# Altium integrated library NSC Amplifier.IntLib: 1615 symbols (part 42 of 44)
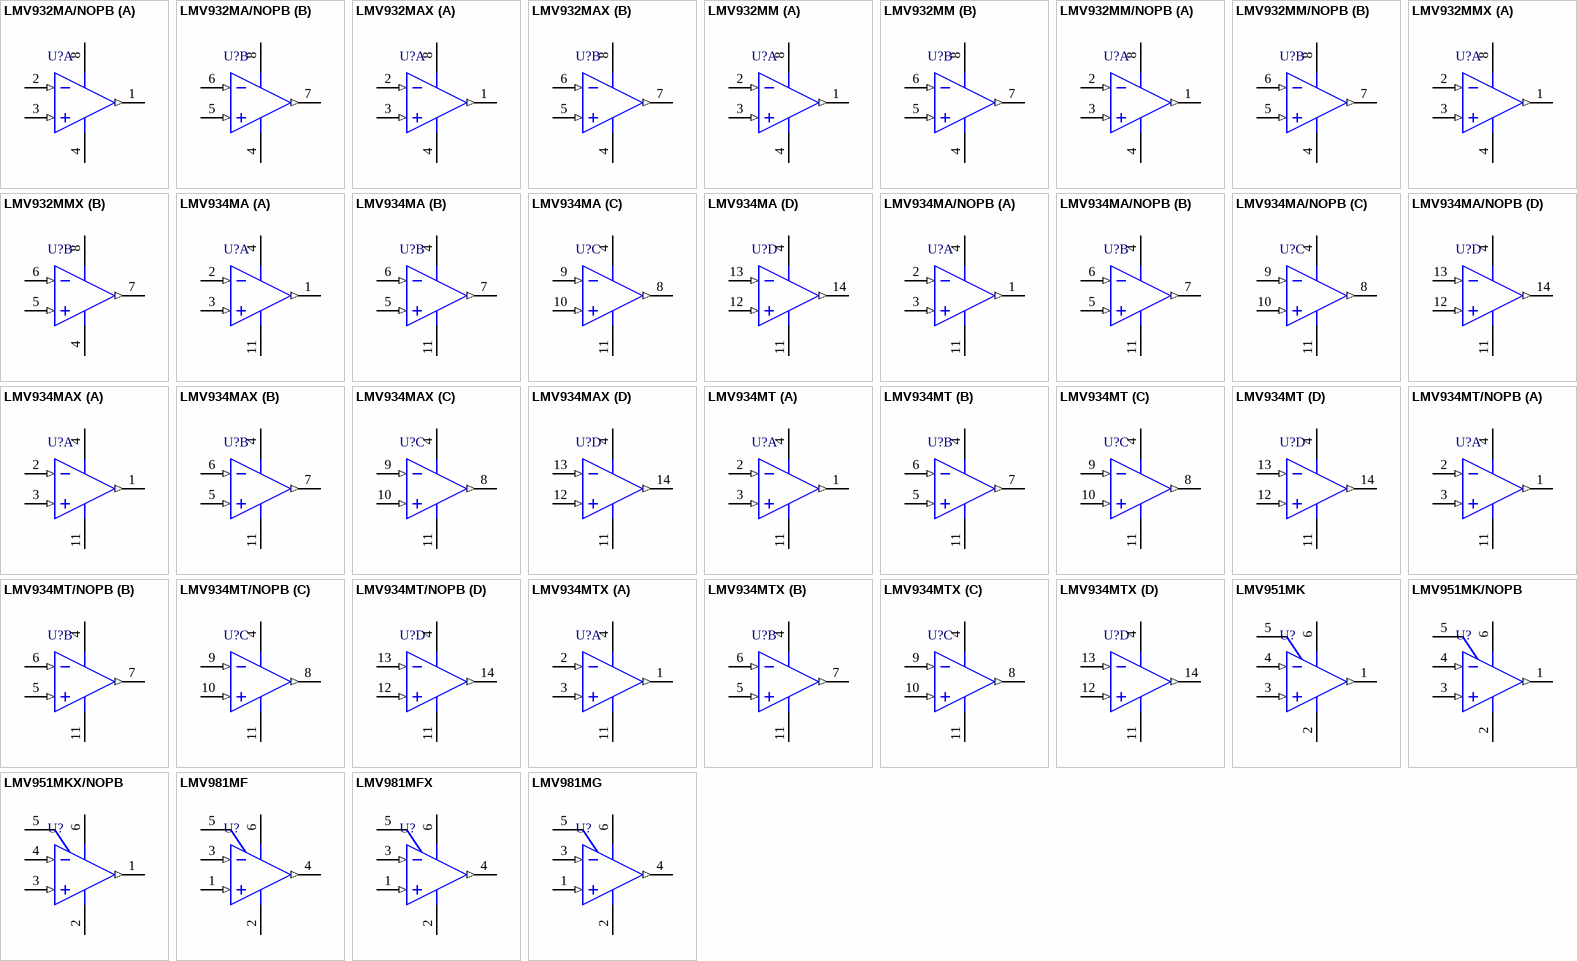
[diagram p123: symbols LMV932MA/NOPB to LMV981MG]

## LMV934MT
designator U?
Quad 1.8V, RRIO Operational Amplifiers, 14-pin TSSOP; PartNumber: LMV934MT; Manufacturer: National Semiconductor; PackageTopMarking: NSZXYTT*LMV93*4MT; PowerWise: N; Published: 4-Dec-2008; LatestRevisionDate: 13-Jan-2009; LatestRevisionNote: Sim Model Added.; DatasheetVersion: May-2008; PackageVersion: revD, Jun-2003; PackageReference: MTC14; Publisher: Altium Limited; PackageDescription: Molded TSSOP, JEDEC, 5 x 4.4 x 0.9mm Body, 14 Lead, 0.65mm Pitch; RoHS: N; PinCount: 14; CompType: Amplifiers; Code_JEDEC: MO-153-AB-1; ComponentLink1Description: LMV934 Datasheet; ComponentLink1URL: http://www.national.com/ds/LM/LMV934.pdf; ComponentLink2Description: LMV934 Web Page; ComponentLink2URL: http://www.national.com/pf/LM/LMV934.html; ComponentLink3Description: MTC14 Package Page; ComponentLink3URL: http://www.national.com/packaging/folders/mtc14.html
footprint MTC14_N (TSOP, 14-Leads, Body 5x4.4mm, Pitch 0.65mm, IPC Medium Density)
footprint MTC14_L (TSOP, 14-Leads, Body 5x4.4mm, Pitch 0.65mm, IPC High Density)
footprint MTC14_M (TSOP, 14-Leads, Body 5x4.4mm, Pitch 0.65mm, IPC Low Density)
simulation model LMV921 (SUBCKT)
pins on every part: 4 V+ (power), 11 V- (power)
part A pins: 1 OUTA (out), 2 INA- (in), 3 INA+ (in)
part B pins: 5 INB+ (in), 6 INB- (in), 7 OUTB (out)
part C pins: 8 OUTC (out), 9 INC- (in), 10 INC+ (in)
part D pins: 12 IND+ (in), 13 IND- (in), 14 OUTD (out)

## LMV934MT/NOPB
designator U?
Quad 1.8V, RRIO Operational Amplifiers, 14-pin TSSOP, Pb-Free; PartNumber: LMV934MT/NOPB; Manufacturer: National Semiconductor; PackageTopMarking: NSZXYTT*LMV93*4MT; PowerWise: N; Published: 1-Mar-2010; DatasheetVersion: May-2008; PackageVersion: revD, Jun-2003; PackageReference: MTC14; Publisher: Altium Limited; PackageDescription: Molded TSSOP, JEDEC, 5 x 4.4 x 0.9mm Body, 14 Lead, 0.65mm Pitch; Supplier 1: Digi-Key; Supplier Part Number 1: LMV934MT-ND; RoHS: Y; PinCount: 14; CompType: Amplifiers; Code_JEDEC: MO-153-AB-1; ComponentLink1Description: LMV934 Datasheet; ComponentLink1URL: http://www.national.com/ds/LM/LMV934.pdf; ComponentLink2Description: LMV934 Web Page; ComponentLink2URL: http://www.national.com/pf/LM/LMV934.html; ComponentLink3Description: MTC14 Package Page; ComponentLink3URL: http://www.national.com/packaging/folders/mtc14.html
footprint MTC14_N (TSOP, 14-Leads, Body 5x4.4mm, Pitch 0.65mm, IPC Medium Density)
footprint MTC14_L (TSOP, 14-Leads, Body 5x4.4mm, Pitch 0.65mm, IPC High Density)
footprint MTC14_M (TSOP, 14-Leads, Body 5x4.4mm, Pitch 0.65mm, IPC Low Density)
simulation model LMV921 (SUBCKT)
pins on every part: 4 V+ (power), 11 V- (power)
part A pins: 1 OUTA (out), 2 INA- (in), 3 INA+ (in)
part B pins: 5 INB+ (in), 6 INB- (in), 7 OUTB (out)
part C pins: 8 OUTC (out), 9 INC- (in), 10 INC+ (in)
part D pins: 12 IND+ (in), 13 IND- (in), 14 OUTD (out)

## LMV934MTX
designator U?
Quad 1.8V, RRIO Operational Amplifiers, 14-pin TSSOP; PartNumber: LMV934MTX; Manufacturer: National Semiconductor; PackageTopMarking: NSZXYTT*LMV93*4MT; PowerWise: N; Published: 1-Mar-2010; DatasheetVersion: May-2008; PackageVersion: revD, Jun-2003; PackageReference: MTC14; Publisher: Altium Limited; PackageDescription: Molded TSSOP, JEDEC, 5 x 4.4 x 0.9mm Body, 14 Lead, 0.65mm Pitch; RoHS: N; PinCount: 14; CompType: Amplifiers; Code_JEDEC: MO-153-AB-1; ComponentLink1Description: LMV934 Datasheet; ComponentLink1URL: http://www.national.com/ds/LM/LMV934.pdf; ComponentLink2Description: LMV934 Web Page; ComponentLink2URL: http://www.national.com/pf/LM/LMV934.html; ComponentLink3Description: MTC14 Package Page; ComponentLink3URL: http://www.national.com/packaging/folders/mtc14.html
footprint MTC14_N (TSOP, 14-Leads, Body 5x4.4mm, Pitch 0.65mm, IPC Medium Density)
footprint MTC14_L (TSOP, 14-Leads, Body 5x4.4mm, Pitch 0.65mm, IPC High Density)
footprint MTC14_M (TSOP, 14-Leads, Body 5x4.4mm, Pitch 0.65mm, IPC Low Density)
simulation model LMV921 (SUBCKT)
pins on every part: 4 V+ (power), 11 V- (power)
part A pins: 1 OUTA (out), 2 INA- (in), 3 INA+ (in)
part B pins: 5 INB+ (in), 6 INB- (in), 7 OUTB (out)
part C pins: 8 OUTC (out), 9 INC- (in), 10 INC+ (in)
part D pins: 12 IND+ (in), 13 IND- (in), 14 OUTD (out)

## LMV951MK
designator U?
1V, 2.7 MHz, Rail-to-Rail Input and Output Amplifier with Shutdown Option, 6-pin Tiny SOT23; PartNumber: LMV951MK; Manufacturer: National Semiconductor; PackageTopMarking: AS3A*XTT; PowerWise: N; CompType: Amplifiers; Published: 4-Dec-2008; LatestRevisionDate: 13-Jan-2009; LatestRevisionNote: Sim Model Added.; DatasheetVersion: Dec-2006; PackageVersion: revE, Nov-2008; PackageReference: MK06A; Publisher: Altium Limited; PackageDescription: Molded TSOT, 2.97 x 1.65 x 0.87mm Body, 6 Lead, 0.95mm Pitch; Supplier 1: Farnell; Supplier Part Number 1: 1313864; RoHS: Y; PinCount: 6; Code_JEDEC: MO-193-AA; Code_IPC: SOT26A-6; ComponentLink1Description: LMV951 Datasheet; ComponentLink1URL: http://www.national.com/ds/LM/LMV951.pdf; ComponentLink2Description: LMV951 Web Page; ComponentLink2URL: http://www.national.com/pf/LM/LMV951.html; ComponentLink3Description: MK06A Package Page; ComponentLink3URL: http://www.national.com/packaging/folders/mk06a.html
footprint MK06A_N (SOT23, 6-Leads, Body 3.0x1.7mm, Pitch 0.95mm, Lead Span 2.9mm, IPC Medium Density)
footprint MK06A_L (SOT23, 6-Leads, Body 3.0x1.7mm, Pitch 0.95mm, Lead Span 2.9mm, IPC High Density)
footprint MK06A_M (SOT23, 6-Leads, Body 3.0x1.7mm, Pitch 0.95mm, Lead Span 2.9mm, IPC Low Density)
simulation model LMV951 (SUBCKT)
pins: 1 OUT (out), 2 V- (power), 3 IN+ (in), 4 IN- (in), 5 SHDN, 6 V+ (power)

## LMV951MK/NOPB
designator U?
1V, 2.7 MHz, Rail-to-Rail Input and Output Amplifier with Shutdown Option, 6-pin Tiny SOT23, Pb-Free; PartNumber: LMV951MK/NOPB; Manufacturer: National Semiconductor; PackageTopMarking: AS3A*XTT; PowerWise: N; CompType: Amplifiers; Published: 1-Mar-2010; DatasheetVersion: Dec-2006; PackageVersion: revE, Nov-2008; PackageReference: MK06A; Publisher: Altium Limited; PackageDescription: Molded TSOT, 2.97 x 1.65 x 0.87mm Body, 6 Lead, 0.95mm Pitch; Supplier 1: Digi-Key; Supplier Part Number 1: LMV951MKTR-ND; Supplier 2: Digi-Key; Supplier Part Number 2: LMV951MKCT-ND; Supplier 3: Digi-Key; Supplier Part Number 3: LMV951MKDKR-ND; Supplier 4: Farnell; Supplier Part Number 4: 1693915; RoHS: Y; PinCount: 6; Code_JEDEC: MO-193-AA; Code_IPC: SOT26A-6; ComponentLink1Description: LMV951 Datasheet; ComponentLink1URL: http://www.national.com/ds/LM/LMV951.pdf; ComponentLink2Description: LMV951 Web Page; ComponentLink2URL: http://www.national.com/pf/LM/LMV951.html; ComponentLink3Description: MK06A Package Page; ComponentLink3URL: http://www.national.com/packaging/folders/mk06a.html
footprint MK06A_N (SOT23, 6-Leads, Body 3.0x1.7mm, Pitch 0.95mm, Lead Span 2.9mm, IPC Medium Density)
footprint MK06A_L (SOT23, 6-Leads, Body 3.0x1.7mm, Pitch 0.95mm, Lead Span 2.9mm, IPC High Density)
footprint MK06A_M (SOT23, 6-Leads, Body 3.0x1.7mm, Pitch 0.95mm, Lead Span 2.9mm, IPC Low Density)
simulation model LMV951 (SUBCKT)
pins: 1 OUT (out), 2 V- (power), 3 IN+ (in), 4 IN- (in), 5 SHDN, 6 V+ (power)

## LMV951MKX/NOPB
designator U?
1V, 2.7 MHz, Rail-to-Rail Input and Output Amplifier with Shutdown Option, 6-pin Tiny SOT23, Pb-Free; PartNumber: LMV951MKX/NOPB; Manufacturer: National Semiconductor; PackageTopMarking: AS3A*XTT; PowerWise: N; CompType: Amplifiers; Published: 1-Mar-2010; DatasheetVersion: Dec-2006; PackageVersion: revE, Nov-2008; PackageReference: MK06A; Publisher: Altium Limited; PackageDescription: Molded TSOT, 2.97 x 1.65 x 0.87mm Body, 6 Lead, 0.95mm Pitch; Supplier 1: Digi-Key; Supplier Part Number 1: LMV951MKX-ND; RoHS: Y; PinCount: 6; Code_JEDEC: MO-193-AA; Code_IPC: SOT26A-6; ComponentLink1Description: LMV951 Datasheet; ComponentLink1URL: http://www.national.com/ds/LM/LMV951.pdf; ComponentLink2Description: LMV951 Web Page; ComponentLink2URL: http://www.national.com/pf/LM/LMV951.html; ComponentLink3Description: MK06A Package Page; ComponentLink3URL: http://www.national.com/packaging/folders/mk06a.html
footprint MK06A_N (SOT23, 6-Leads, Body 3.0x1.7mm, Pitch 0.95mm, Lead Span 2.9mm, IPC Medium Density)
footprint MK06A_L (SOT23, 6-Leads, Body 3.0x1.7mm, Pitch 0.95mm, Lead Span 2.9mm, IPC High Density)
footprint MK06A_M (SOT23, 6-Leads, Body 3.0x1.7mm, Pitch 0.95mm, Lead Span 2.9mm, IPC Low Density)
simulation model LMV951 (SUBCKT)
pins: 1 OUT (out), 2 V- (power), 3 IN+ (in), 4 IN- (in), 5 SHDN, 6 V+ (power)

## LMV981MF
designator U?
Single 1.8V, RRIO Operational Amplifiers with Shutdown, 6-pin SOT-23; PartNumber: LMV981MF; Manufacturer: National Semiconductor; PackageTopMarking: A78A*XTT; PowerWise: N; Published: 4-Dec-2008; LatestRevisionDate: 13-Jan-2009; LatestRevisionNote: Sim Model Added.; DatasheetVersion: Nov-2005; PackageVersion: revC, Sep-2005; PackageReference: MF06A; Publisher: Altium Limited; PackageDescription: Molded SOT-23, .115 x .063 x .040in Body, 6 Lead, .0375in in Pitch; Supplier 1: Farnell; Supplier Part Number 1: 1312840; RoHS: N; PinCount: 6; CompType: Amplifiers; Code_JEDEC: MO-178-AB; Code_IPC: SOT26A-6; ComponentLink1Description: LMV981 Datasheet; ComponentLink1URL: http://www.national.com/ds/LM/LMV981.pdf; ComponentLink2Description: LMV981 Web Page; ComponentLink2URL: http://www.national.com/pf/LM/LMV981.html; ComponentLink3Description: MF06A Package Page; ComponentLink3URL: http://www.national.com/packaging/folders/mf06a.html
footprint MF06A_N (SOT23, 6-Leads, Body 2.9x1.6mm, Pitch 0.95mm, Lead Span 2.8mm, IPC Medium Density)
footprint MF06A_L (SOT23, 6-Leads, Body 2.9x1.6mm, Pitch 0.95mm, Lead Span 2.8mm, IPC High Density)
footprint MF06A_M (SOT23, 6-Leads, Body 2.9x1.6mm, Pitch 0.95mm, Lead Span 2.8mm, IPC Low Density)
simulation model LMV981 (SUBCKT)
pins: 1 IN+ (in), 2 GND (power), 3 IN- (in), 4 OUT (out), 5 ~{SHDN}, 6 VDD (power)

## LMV981MFX
designator U?
Single 1.8V, RRIO Operational Amplifiers with Shutdown, 6-pin SOT-23; PartNumber: LMV981MFX; Manufacturer: National Semiconductor; PackageTopMarking: A78A*XTT; PowerWise: N; Published: 1-Mar-2010; DatasheetVersion: Nov-2005; PackageVersion: revC, Sep-2005; PackageReference: MF06A; Publisher: Altium Limited; PackageDescription: Molded SOT-23, .115 x .063 x .040in Body, 6 Lead, .0375in in Pitch; RoHS: N; PinCount: 6; CompType: Amplifiers; Code_JEDEC: MO-178-AB; Code_IPC: SOT26A-6; ComponentLink1Description: LMV981 Datasheet; ComponentLink1URL: http://www.national.com/ds/LM/LMV981.pdf; ComponentLink2Description: LMV981 Web Page; ComponentLink2URL: http://www.national.com/pf/LM/LMV981.html; ComponentLink3Description: MF06A Package Page; ComponentLink3URL: http://www.national.com/packaging/folders/mf06a.html
footprint MF06A_N (SOT23, 6-Leads, Body 2.9x1.6mm, Pitch 0.95mm, Lead Span 2.8mm, IPC Medium Density)
footprint MF06A_L (SOT23, 6-Leads, Body 2.9x1.6mm, Pitch 0.95mm, Lead Span 2.8mm, IPC High Density)
footprint MF06A_M (SOT23, 6-Leads, Body 2.9x1.6mm, Pitch 0.95mm, Lead Span 2.8mm, IPC Low Density)
simulation model LMV981 (SUBCKT)
pins: 1 IN+ (in), 2 GND (power), 3 IN- (in), 4 OUT (out), 5 ~{SHDN}, 6 VDD (power)

## LMV981MG
designator U?
Single 1.8V, RRIO Operational Amplifiers with Shutdown, 6-pin SC-70; PartNumber: LMV981MG; Manufacturer: National Semiconductor; PackageTopMarking: A77*XTT; PowerWise: N; Published: 4-Dec-2008; LatestRevisionDate: 13-Jan-2009; LatestRevisionNote: Sim Model Added.; DatasheetVersion: Nov-2005; PackageVersion: revB, Jun-2007; PackageReference: MAA06A; Publisher: Altium Limited; PackageDescription: Molded SC-70, 2 x 1.25 x .9mm, 6 Lead, 0.65mm Pitch; Supplier 1: Farnell; Supplier Part Number 1: 1312841; RoHS: N; PinCount: 6; CompType: Amplifiers; ComponentLink1Description: LMV981 Datasheet; ComponentLink1URL: http://www.national.com/ds/LM/LMV981.pdf; ComponentLink2Description: LMV981 Web Page; ComponentLink2URL: http://www.national.com/pf/LM/LMV981.html; ComponentLink3Description: MAA06A Package Page; ComponentLink3URL: http://www.national.com/packaging/folders/maa06a.html
footprint MAA06A_N (SOT363, 6-Leads, Body 2x1.3mm, Pitch 0.65mm, Lead Span 2.1mm, IPC Medium Density)
footprint MAA06A_L (SOT363, 6-Leads, Body 2x1.3mm, Pitch 0.65mm, Lead Span 2.1mm, IPC High Density)
footprint MAA06A_M (SOT363, 6-Leads, Body 2x1.3mm, Pitch 0.65mm, Lead Span 2.1mm, IPC Low Density)
simulation model LMV981 (SUBCKT)
pins: 1 IN+ (in), 2 GND (power), 3 IN- (in), 4 OUT (out), 5 ~{SHDN}, 6 VDD (power)

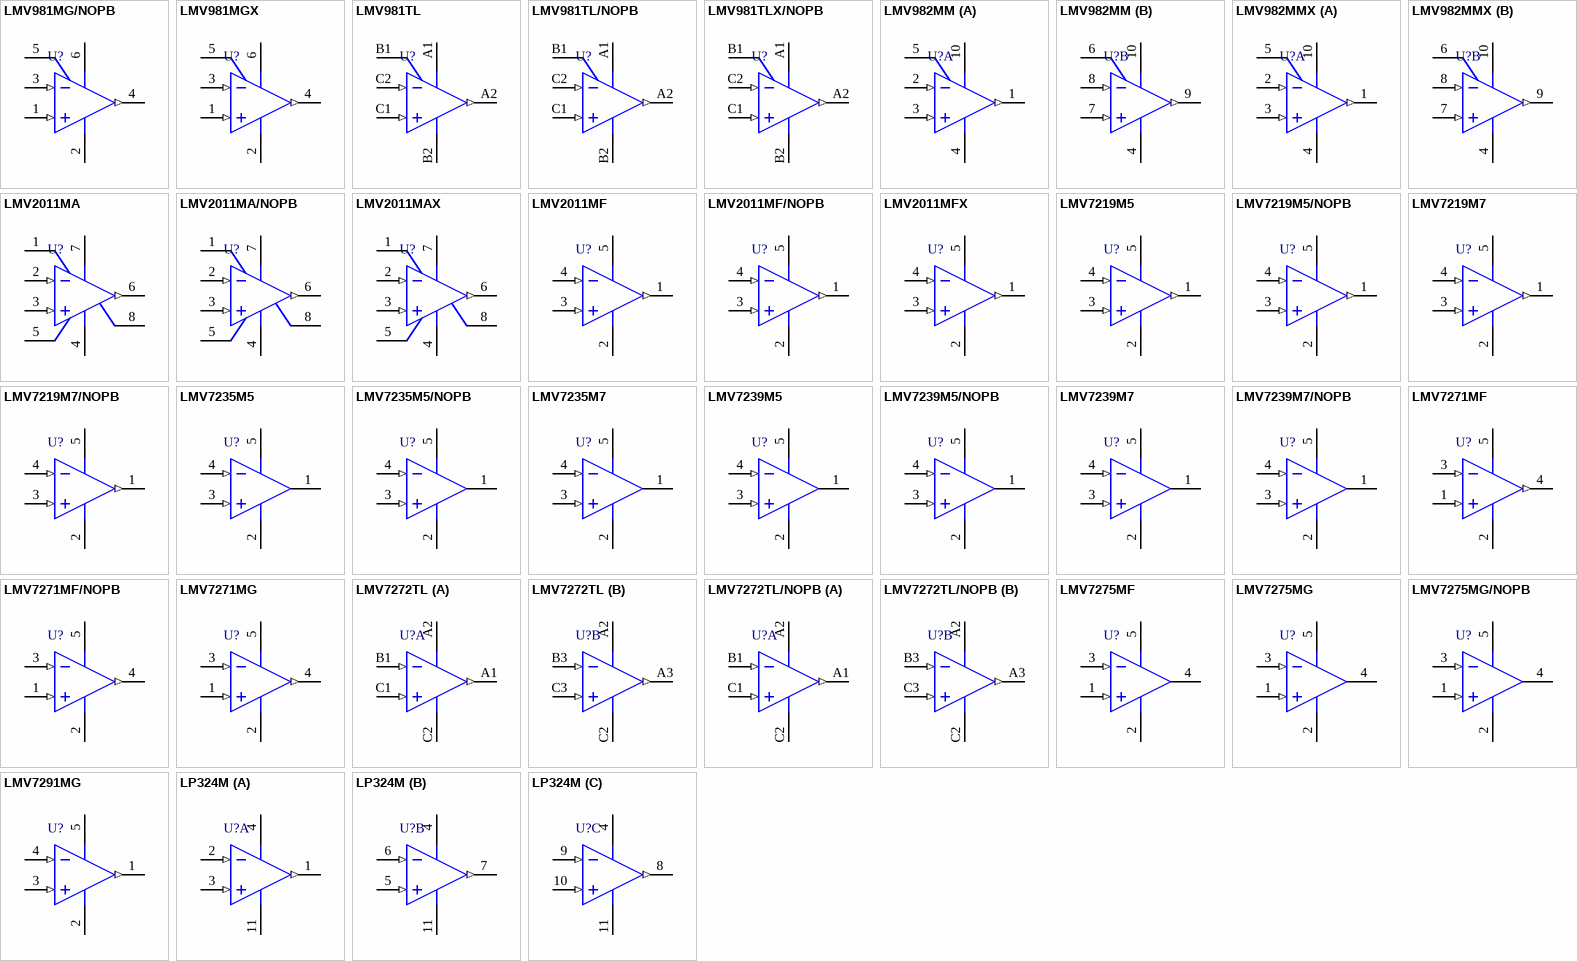
[diagram p78: symbols LMV981MG/NOPB to LP324M]

## LMV981MG/NOPB
designator U?
Single 1.8V, RRIO Operational Amplifiers with Shutdown, 6-pin SC-70, Pb-Free; PartNumber: LMV981MG/NOPB; Manufacturer: National Semiconductor; PackageTopMarking: A77*XTT; PowerWise: N; Published: 1-Mar-2010; DatasheetVersion: Nov-2005; PackageVersion: revB, Jun-2007; PackageReference: MAA06A; Publisher: Altium Limited; PackageDescription: Molded SC-70, 2 x 1.25 x .9mm, 6 Lead, 0.65mm Pitch; Supplier 1: Digi-Key; Supplier Part Number 1: LMV981MGTR-ND; Supplier 2: Digi-Key; Supplier Part Number 2: LMV981MGCT-ND; Supplier 3: Digi-Key; Supplier Part Number 3: LMV981MGDKR-ND; Supplier 4: Farnell; Supplier Part Number 4: 1685374; RoHS: Y; PinCount: 6; CompType: Amplifiers; ComponentLink1Description: LMV981 Datasheet; ComponentLink1URL: http://www.national.com/ds/LM/LMV981.pdf; ComponentLink2Description: LMV981 Web Page; ComponentLink2URL: http://www.national.com/pf/LM/LMV981.html; ComponentLink3Description: MAA06A Package Page; ComponentLink3URL: http://www.national.com/packaging/folders/maa06a.html
footprint MAA06A_N (SOT363, 6-Leads, Body 2x1.3mm, Pitch 0.65mm, Lead Span 2.1mm, IPC Medium Density)
footprint MAA06A_L (SOT363, 6-Leads, Body 2x1.3mm, Pitch 0.65mm, Lead Span 2.1mm, IPC High Density)
footprint MAA06A_M (SOT363, 6-Leads, Body 2x1.3mm, Pitch 0.65mm, Lead Span 2.1mm, IPC Low Density)
simulation model LMV981 (SUBCKT)
pins: 1 IN+ (in), 2 GND (power), 3 IN- (in), 4 OUT (out), 5 ~{SHDN}, 6 VDD (power)

## LMV981MGX
designator U?
Single 1.8V, RRIO Operational Amplifiers with Shutdown, 6-pin SC-70; PartNumber: LMV981MGX; Manufacturer: National Semiconductor; PackageTopMarking: A77*XTT; PowerWise: N; Published: 1-Mar-2010; DatasheetVersion: Nov-2005; PackageVersion: revB, Jun-2007; PackageReference: MAA06A; Publisher: Altium Limited; PackageDescription: Molded SC-70, 2 x 1.25 x .9mm, 6 Lead, 0.65mm Pitch; RoHS: N; PinCount: 6; CompType: Amplifiers; ComponentLink1Description: LMV981 Datasheet; ComponentLink1URL: http://www.national.com/ds/LM/LMV981.pdf; ComponentLink2Description: LMV981 Web Page; ComponentLink2URL: http://www.national.com/pf/LM/LMV981.html; ComponentLink3Description: MAA06A Package Page; ComponentLink3URL: http://www.national.com/packaging/folders/maa06a.html
footprint MAA06A_N (SOT363, 6-Leads, Body 2x1.3mm, Pitch 0.65mm, Lead Span 2.1mm, IPC Medium Density)
footprint MAA06A_L (SOT363, 6-Leads, Body 2x1.3mm, Pitch 0.65mm, Lead Span 2.1mm, IPC High Density)
footprint MAA06A_M (SOT363, 6-Leads, Body 2x1.3mm, Pitch 0.65mm, Lead Span 2.1mm, IPC Low Density)
simulation model LMV981 (SUBCKT)
pins: 1 IN+ (in), 2 GND (power), 3 IN- (in), 4 OUT (out), 5 ~{SHDN}, 6 VDD (power)

## LMV981TL
designator U?
Single 1.8V, RRIO Operational Amplifiers with Shutdown, 6-pin Micro SMD; PartNumber: LMV981TL; Manufacturer: National Semiconductor; PackageTopMarking: XVA*I H; PowerWise: N; Published: 4-Dec-2008; LatestRevisionDate: 13-Jan-2009; LatestRevisionNote: Sim Model Added.; DatasheetVersion: Nov-2005; PackageVersion: revC, Jan-2004; PackageReference: TLA06BBA; Publisher: Altium Limited; PackageDescription: Thin Micro SMD, 6 Bump (Large), 0.5mm Pitch; RoHS: Y; PinCount: 6; CompType: Amplifiers; Code_JEDEC: MO-211-DB; ComponentLink1Description: LMV981 Datasheet; ComponentLink1URL: http://www.national.com/ds/LM/LMV981.pdf; ComponentLink2Description: LMV981 Web Page; ComponentLink2URL: http://www.national.com/pf/LM/LMV981.html; ComponentLink3Description: TLA06BBA Package Page; ComponentLink3URL: http://www.national.com/packaging/folders/tla06bba.html
footprint TLA06BBA (Micro SMD, 6-Leads, Body 1.54x1.03mm, Pitch 0.5mm, NSC Recommended)
simulation model LMV981 (SUBCKT)
pins: A1 VDD (power), A2 OUT (out), B1 ~{SHDN}, B2 GND (power), C1 IN+ (in), C2 IN- (in)

## LMV981TL/NOPB
designator U?
Single 1.8V, RRIO Operational Amplifiers with Shutdown, 6-pin Micro SMD, Pb-Free; PartNumber: LMV981TL/NOPB; Manufacturer: National Semiconductor; PackageTopMarking: XVA*I H; PowerWise: N; Published: 1-Mar-2010; DatasheetVersion: Nov-2005; PackageVersion: revC, Jan-2004; PackageReference: TLA06BBA; Publisher: Altium Limited; PackageDescription: Thin Micro SMD, 6 Bump (Large), 0.5mm Pitch; Supplier 1: Digi-Key; Supplier Part Number 1: LMV981TLTR-ND; Supplier 2: Digi-Key; Supplier Part Number 2: LMV981TLCT-ND; Supplier 3: Digi-Key; Supplier Part Number 3: LMV981TLDKR-ND; RoHS: Y; PinCount: 6; CompType: Amplifiers; Code_JEDEC: MO-211-DB; ComponentLink1Description: LMV981 Datasheet; ComponentLink1URL: http://www.national.com/ds/LM/LMV981.pdf; ComponentLink2Description: LMV981 Web Page; ComponentLink2URL: http://www.national.com/pf/LM/LMV981.html; ComponentLink3Description: TLA06BBA Package Page; ComponentLink3URL: http://www.national.com/packaging/folders/tla06bba.html
footprint TLA06BBA (Micro SMD, 6-Leads, Body 1.54x1.03mm, Pitch 0.5mm, NSC Recommended)
simulation model LMV981 (SUBCKT)
pins: A1 VDD (power), A2 OUT (out), B1 ~{SHDN}, B2 GND (power), C1 IN+ (in), C2 IN- (in)

## LMV981TLX/NOPB
designator U?
Single 1.8V, RRIO Operational Amplifiers with Shutdown, 6-pin Micro SMD, Pb-Free; PartNumber: LMV981TLX/NOPB; Manufacturer: National Semiconductor; PackageTopMarking: XVA*I H; PowerWise: N; Published: 1-Mar-2010; DatasheetVersion: Nov-2005; PackageVersion: revC, Jan-2004; PackageReference: TLA06BBA; Publisher: Altium Limited; PackageDescription: Thin Micro SMD, 6 Bump (Large), 0.5mm Pitch; Supplier 1: Digi-Key; Supplier Part Number 1: LMV981TLX-ND; RoHS: Y; PinCount: 6; CompType: Amplifiers; Code_JEDEC: MO-211-DB; ComponentLink1Description: LMV981 Datasheet; ComponentLink1URL: http://www.national.com/ds/LM/LMV981.pdf; ComponentLink2Description: LMV981 Web Page; ComponentLink2URL: http://www.national.com/pf/LM/LMV981.html; ComponentLink3Description: TLA06BBA Package Page; ComponentLink3URL: http://www.national.com/packaging/folders/tla06bba.html
footprint TLA06BBA (Micro SMD, 6-Leads, Body 1.54x1.03mm, Pitch 0.5mm, NSC Recommended)
simulation model LMV981 (SUBCKT)
pins: A1 VDD (power), A2 OUT (out), B1 ~{SHDN}, B2 GND (power), C1 IN+ (in), C2 IN- (in)

## LMV982MM
designator U?
Dual 1.8V, RRIO Operational Amplifiers with Shutdown, 10-pin MSOP; PartNumber: LMV982MM; Manufacturer: National Semiconductor; PackageTopMarking: ZXTT*A87A; PowerWise: N; Published: 4-Dec-2008; LatestRevisionDate: 13-Jan-2009; LatestRevisionNote: Sim Model Added.; DatasheetVersion: Nov-2005; PackageVersion: revB, Jul-2003; PackageReference: MUB10A; Publisher: Altium Limited; PackageDescription: Mini-SO, Molded, .118 x .118 x .034in Body, 10 Lead, .0197in Pitch; Supplier 1: Farnell; Supplier Part Number 1: 1312842; RoHS: N; PinCount: 10; CompType: Amplifiers; Code_JEDEC: MO-187-BA; ComponentLink1Description: LMV982 Datasheet; ComponentLink1URL: http://www.national.com/ds/LM/LMV982.pdf; ComponentLink2Description: LMV982 Web Page; ComponentLink2URL: http://www.national.com/pf/LM/LMV982.html; ComponentLink3Description: MUB10A Package Page; ComponentLink3URL: http://www.national.com/packaging/folders/mub10a.html
footprint MUB10A_N (TSSOP, 10-Leads, Body 3x3mm, Pitch 0.5mm, IPC Medium Density)
footprint MUB10A_L (TSSOP, 10-Leads, Body 3x3mm, Pitch 0.5mm, IPC High Density)
footprint MUB10A_M (TSSOP, 10-Leads, Body 3x3mm, Pitch 0.5mm, IPC Low Density)
simulation model LMV981 (SUBCKT)
pins on every part: 4 V- (power), 10 V+ (power)
part A pins: 1 OUTA (out), 2 INA- (in), 3 INA+ (in), 5 ~{SHDNA}
part B pins: 6 ~{SHDNB}, 7 INB+ (in), 8 INB- (in), 9 OUTB (out)

## LMV982MMX
designator U?
Dual 1.8V, RRIO Operational Amplifiers with Shutdown, 10-pin Mini SOIC; PartNumber: LMV982MMX; Manufacturer: National Semiconductor; PackageTopMarking: ZXTT*A87A; PowerWise: N; Published: 1-Mar-2010; DatasheetVersion: Nov-2005; PackageVersion: revB, Jul-2003; PackageReference: MUB10A; Publisher: Altium Limited; PackageDescription: Mini-SO, Molded, .118 x .118 x .034in Body, 10 Lead, .0197in Pitch; RoHS: N; PinCount: 10; CompType: Amplifiers; Code_JEDEC: MO-187-BA; ComponentLink1Description: LMV982 Datasheet; ComponentLink1URL: http://www.national.com/ds/LM/LMV982.pdf; ComponentLink2Description: LMV982 Web Page; ComponentLink2URL: http://www.national.com/pf/LM/LMV982.html; ComponentLink3Description: MUB10A Package Page; ComponentLink3URL: http://www.national.com/packaging/folders/mub10a.html
footprint MUB10A_N (TSSOP, 10-Leads, Body 3x3mm, Pitch 0.5mm, IPC Medium Density)
footprint MUB10A_L (TSSOP, 10-Leads, Body 3x3mm, Pitch 0.5mm, IPC High Density)
footprint MUB10A_M (TSSOP, 10-Leads, Body 3x3mm, Pitch 0.5mm, IPC Low Density)
simulation model LMV981 (SUBCKT)
pins on every part: 4 V- (power), 10 V+ (power)
part A pins: 1 OUTA (out), 2 INA- (in), 3 INA+ (in), 5 ~{SHDNA}
part B pins: 6 ~{SHDNB}, 7 INB+ (in), 8 INB- (in), 9 OUTB (out)

## LMV2011MA
designator U?
High Precision, Rail-to-Rail Output Operational Amplifier, 8-pin Narrow SOIC; PartNumber: LMV2011MA; Manufacturer: National Semiconductor; PackageTopMarking: NSZXTT*LMV20*11MA; PowerWise: N; CompType: Amplifiers; Published: 4-Dec-2008; LatestRevisionDate: 13-Jan-2009; LatestRevisionNote: Sim Model Added.; DatasheetVersion: Jul-2008; PackageVersion: revM, May-2009; PackageReference: M08A; Publisher: Altium Limited; PackageDescription: SOIC Narrow, 4.9 x 3.9 x 1.45mm, 8 Lead, 1.27mm Pitch; Supplier 1: Farnell; Supplier Part Number 1: 1286953; RoHS: N; PinCount: 8; Code_JEDEC: MS-012-AA; Code_IPC: SOIC127P600-8; ComponentLink1Description: LMV2011 Datasheet; ComponentLink1URL: http://www.national.com/ds/LM/LMV2011.pdf; ComponentLink2Description: LMV2011 Web Page; ComponentLink2URL: http://www.national.com/pf/LM/LMV2011.html; ComponentLink3Description: M08A Package Page; ComponentLink3URL: http://www.national.com/packaging/folders/m08a.html
footprint M08A_N (SOIC, 8-Leads, Body 4.9x3.9mm, Pitch 1.27mm, IPC Medium Density)
footprint M08A_L (SOIC, 8-Leads, Body 4.9x3.9mm, Pitch 1.27mm, IPC High Density)
footprint M08A_M (SOIC, 8-Leads, Body 4.9x3.9mm, Pitch 1.27mm, IPC Low Density)
simulation model LMV2011 (SUBCKT)
pins: 1 NC, 2 IN- (in), 3 IN+ (in), 4 V- (power), 5 NC, 6 OUT (out), 7 V+ (power), 8 NC

## LMV2011MA/NOPB
designator U?
High Precision, Rail-to-Rail Output Operational Amplifier, 8-pin Narrow SOIC, Pb-Free; PartNumber: LMV2011MA/NOPB; Manufacturer: National Semiconductor; PackageTopMarking: NSZXTT*LMV20*11MA; PowerWise: N; CompType: Amplifiers; Published: 1-Mar-2010; DatasheetVersion: Jul-2008; PackageVersion: revM, May-2009; PackageReference: M08A; Publisher: Altium Limited; PackageDescription: SOIC Narrow, 4.9 x 3.9 x 1.45mm, 8 Lead, 1.27mm Pitch; Supplier 1: Digi-Key; Supplier Part Number 1: LMV2011MA-ND; Supplier 2: Farnell; Supplier Part Number 2: 1693970; RoHS: Y; PinCount: 8; Code_JEDEC: MS-012-AA; Code_IPC: SOIC127P600-8; ComponentLink1Description: LMV2011 Datasheet; ComponentLink1URL: http://www.national.com/ds/LM/LMV2011.pdf; ComponentLink2Description: LMV2011 Web Page; ComponentLink2URL: http://www.national.com/pf/LM/LMV2011.html; ComponentLink3Description: M08A Package Page; ComponentLink3URL: http://www.national.com/packaging/folders/m08a.html
footprint M08A_N (SOIC, 8-Leads, Body 4.9x3.9mm, Pitch 1.27mm, IPC Medium Density)
footprint M08A_L (SOIC, 8-Leads, Body 4.9x3.9mm, Pitch 1.27mm, IPC High Density)
footprint M08A_M (SOIC, 8-Leads, Body 4.9x3.9mm, Pitch 1.27mm, IPC Low Density)
simulation model LMV2011 (SUBCKT)
pins: 1 NC, 2 IN- (in), 3 IN+ (in), 4 V- (power), 5 NC, 6 OUT (out), 7 V+ (power), 8 NC

## LMV2011MAX
designator U?
High Precision, Rail-to-Rail Output Operational Amplifier, 8-pin Narrow SOIC; PartNumber: LMV2011MAX; Manufacturer: National Semiconductor; PackageTopMarking: NSZXTT*LMV20*11MA; PowerWise: N; CompType: Amplifiers; Published: 1-Mar-2010; DatasheetVersion: Jul-2008; PackageVersion: revM, May-2009; PackageReference: M08A; Publisher: Altium Limited; PackageDescription: SOIC Narrow, 4.9 x 3.9 x 1.45mm, 8 Lead, 1.27mm Pitch; RoHS: N; PinCount: 8; Code_JEDEC: MS-012-AA; Code_IPC: SOIC127P600-8; ComponentLink1Description: LMV2011 Datasheet; ComponentLink1URL: http://www.national.com/ds/LM/LMV2011.pdf; ComponentLink2Description: LMV2011 Web Page; ComponentLink2URL: http://www.national.com/pf/LM/LMV2011.html; ComponentLink3Description: M08A Package Page; ComponentLink3URL: http://www.national.com/packaging/folders/m08a.html
footprint M08A_N (SOIC, 8-Leads, Body 4.9x3.9mm, Pitch 1.27mm, IPC Medium Density)
footprint M08A_L (SOIC, 8-Leads, Body 4.9x3.9mm, Pitch 1.27mm, IPC High Density)
footprint M08A_M (SOIC, 8-Leads, Body 4.9x3.9mm, Pitch 1.27mm, IPC Low Density)
simulation model LMV2011 (SUBCKT)
pins: 1 NC, 2 IN- (in), 3 IN+ (in), 4 V- (power), 5 NC, 6 OUT (out), 7 V+ (power), 8 NC

## LMV2011MF
designator U?
High Precision, Rail-to-Rail Output Operational Amplifier, 5-pin SOT-23; PartNumber: LMV2011MF; Manufacturer: National Semiconductor; PackageTopMarking: A84A*XTT; PowerWise: N; CompType: Amplifiers; Published: 4-Dec-2008; LatestRevisionDate: 13-Jan-2009; LatestRevisionNote: Sim Model Added.; DatasheetVersion: Jul-2008; PackageVersion: revD, Aug-2008; PackageReference: MF05A; Publisher: Altium Limited; PackageDescription: Molded SOT-23, .115 x .063 x .040 in Body, 5 Lead, .0375 in Pitch; Supplier 1: Farnell; Supplier Part Number 1: 1312824; RoHS: N; PinCount: 5; ComponentLink1Description: LMV2011 Datasheet; ComponentLink1URL: http://www.national.com/ds/LM/LMV2011.pdf; ComponentLink2Description: LMV2011 Web Page; ComponentLink2URL: http://www.national.com/pf/LM/LMV2011.html; ComponentLink3Description: MF05A Package Page; ComponentLink3URL: http://www.national.com/packaging/folders/mf05a.html
footprint MF05A_N (SOT23, 5-Leads, Body 2.9x1.6mm, Pitch 0.95mm, Lead Span 2.8mm, IPC Medium Density)
footprint MF05A_L (SOT23, 5-Leads, Body 2.9x1.6mm, Pitch 0.95mm, Lead Span 2.8mm, IPC High Density)
footprint MF05A_M (SOT23, 5-Leads, Body 2.9x1.6mm, Pitch 0.95mm, Lead Span 2.8mm, IPC Low Density)
simulation model LMV2011 (SUBCKT)
pins: 1 OUT (out), 2 V- (power), 3 IN+ (in), 4 IN- (in), 5 V+ (power)

## LMV2011MF/NOPB
designator U?
High Precision, Rail-to-Rail Output Operational Amplifier, 5-pin SOT-23, Pb-Free; PartNumber: LMV2011MF/NOPB; Manufacturer: National Semiconductor; PackageTopMarking: A84A*XTT; PowerWise: N; CompType: Amplifiers; Published: 1-Mar-2010; DatasheetVersion: Jul-2008; PackageVersion: revD, Aug-2008; PackageReference: MF05A; Publisher: Altium Limited; PackageDescription: Molded SOT-23, .115 x .063 x .040 in Body, 5 Lead, .0375 in Pitch; Supplier 1: Digi-Key; Supplier Part Number 1: LMV2011MFTR-ND; Supplier 2: Digi-Key; Supplier Part Number 2: LMV2011MFCT-ND; Supplier 3: Digi-Key; Supplier Part Number 3: LMV2011MFDKR-ND; Supplier 4: Farnell; Supplier Part Number 4: 1496046; RoHS: Y; PinCount: 5; ComponentLink1Description: LMV2011 Datasheet; ComponentLink1URL: http://www.national.com/ds/LM/LMV2011.pdf; ComponentLink2Description: LMV2011 Web Page; ComponentLink2URL: http://www.national.com/pf/LM/LMV2011.html; ComponentLink3Description: MF05A Package Page; ComponentLink3URL: http://www.national.com/packaging/folders/mf05a.html
footprint MF05A_N (SOT23, 5-Leads, Body 2.9x1.6mm, Pitch 0.95mm, Lead Span 2.8mm, IPC Medium Density)
footprint MF05A_L (SOT23, 5-Leads, Body 2.9x1.6mm, Pitch 0.95mm, Lead Span 2.8mm, IPC High Density)
footprint MF05A_M (SOT23, 5-Leads, Body 2.9x1.6mm, Pitch 0.95mm, Lead Span 2.8mm, IPC Low Density)
simulation model LMV2011 (SUBCKT)
pins: 1 OUT (out), 2 V- (power), 3 IN+ (in), 4 IN- (in), 5 V+ (power)

## LMV2011MFX
designator U?
High Precision, Rail-to-Rail Output Operational Amplifier, 5-pin SOT-23; PartNumber: LMV2011MFX; Manufacturer: National Semiconductor; PackageTopMarking: A84A*XTT; PowerWise: N; CompType: Amplifiers; Published: 1-Mar-2010; DatasheetVersion: Jul-2008; PackageVersion: revD, Aug-2008; PackageReference: MF05A; Publisher: Altium Limited; PackageDescription: Molded SOT-23, .115 x .063 x .040 in Body, 5 Lead, .0375 in Pitch; RoHS: N; PinCount: 5; ComponentLink1Description: LMV2011 Datasheet; ComponentLink1URL: http://www.national.com/ds/LM/LMV2011.pdf; ComponentLink2Description: LMV2011 Web Page; ComponentLink2URL: http://www.national.com/pf/LM/LMV2011.html; ComponentLink3Description: MF05A Package Page; ComponentLink3URL: http://www.national.com/packaging/folders/mf05a.html
footprint MF05A_N (SOT23, 5-Leads, Body 2.9x1.6mm, Pitch 0.95mm, Lead Span 2.8mm, IPC Medium Density)
footprint MF05A_L (SOT23, 5-Leads, Body 2.9x1.6mm, Pitch 0.95mm, Lead Span 2.8mm, IPC High Density)
footprint MF05A_M (SOT23, 5-Leads, Body 2.9x1.6mm, Pitch 0.95mm, Lead Span 2.8mm, IPC Low Density)
simulation model LMV2011 (SUBCKT)
pins: 1 OUT (out), 2 V- (power), 3 IN+ (in), 4 IN- (in), 5 V+ (power)

## LMV7219M5
designator U?
7 nsec, 2.7V to 5V Comparator with Rail-to- Rail Output, 5-pin SOT-23; PartNumber: LMV7219M5; Manufacturer: National Semiconductor; PackageTopMarking: C14A*XTT; PowerWise: Y; CompType: Amplifiers; Published: 4-Dec-2008; LatestRevisionDate: 13-Jan-2009; LatestRevisionNote: Sim Model Added.; DatasheetVersion: Nov-2004; PackageVersion: revD, Aug-2008; PackageReference: MF05A; Publisher: Altium Limited; PackageDescription: Molded SOT-23, .115 x .063 x .040 in Body, 5 Lead, .0375 in Pitch; Supplier 1: Farnell; Supplier Part Number 1: 9778764; Supplier 2: Farnell; Supplier Part Number 2: 9778764RL; RoHS: N; PinCount: 5; ComponentLink1Description: LMV7219 Datasheet; ComponentLink1URL: http://www.national.com/ds/LM/LMV7219.pdf; ComponentLink2Description: LMV7219 Web Page; ComponentLink2URL: http://www.national.com/pf/LM/LMV7219.html; ComponentLink3Description: MF05A Package Page; ComponentLink3URL: http://www.national.com/packaging/folders/mf05a.html
footprint MF05A_N (SOT23, 5-Leads, Body 2.9x1.6mm, Pitch 0.95mm, Lead Span 2.8mm, IPC Medium Density)
footprint MF05A_L (SOT23, 5-Leads, Body 2.9x1.6mm, Pitch 0.95mm, Lead Span 2.8mm, IPC High Density)
footprint MF05A_M (SOT23, 5-Leads, Body 2.9x1.6mm, Pitch 0.95mm, Lead Span 2.8mm, IPC Low Density)
simulation model LMV7219 (SUBCKT)
pins: 1 OUT (out), 2 V- (power), 3 IN+ (in), 4 IN- (in), 5 V+ (power)

## LMV7219M5/NOPB
designator U?
7 nsec, 2.7V to 5V Comparator with Rail-to- Rail Output, 5-pin SOT-23, Pb-Free; PartNumber: LMV7219M5/NOPB; Manufacturer: National Semiconductor; PackageTopMarking: C14A*XTT; PowerWise: Y; CompType: Amplifiers; Published: 1-Mar-2010; DatasheetVersion: Nov-2004; PackageVersion: revD, Aug-2008; PackageReference: MF05A; Publisher: Altium Limited; PackageDescription: Molded SOT-23, .115 x .063 x .040 in Body, 5 Lead, .0375 in Pitch; Supplier 1: Digi-Key; Supplier Part Number 1: LMV7219M5TR-ND; Supplier 2: Digi-Key; Supplier Part Number 2: LMV7219M5CT-ND; Supplier 3: Digi-Key; Supplier Part Number 3: LMV7219M5DKR-ND; Supplier 4: Farnell; Supplier Part Number 4: 1174640; RoHS: Y; PinCount: 5; ComponentLink1Description: LMV7219 Datasheet; ComponentLink1URL: http://www.national.com/ds/LM/LMV7219.pdf; ComponentLink2Description: LMV7219 Web Page; ComponentLink2URL: http://www.national.com/pf/LM/LMV7219.html; ComponentLink3Description: MF05A Package Page; ComponentLink3URL: http://www.national.com/packaging/folders/mf05a.html
footprint MF05A_N (SOT23, 5-Leads, Body 2.9x1.6mm, Pitch 0.95mm, Lead Span 2.8mm, IPC Medium Density)
footprint MF05A_L (SOT23, 5-Leads, Body 2.9x1.6mm, Pitch 0.95mm, Lead Span 2.8mm, IPC High Density)
footprint MF05A_M (SOT23, 5-Leads, Body 2.9x1.6mm, Pitch 0.95mm, Lead Span 2.8mm, IPC Low Density)
simulation model LMV7219 (SUBCKT)
pins: 1 OUT (out), 2 V- (power), 3 IN+ (in), 4 IN- (in), 5 V+ (power)

## LMV7219M7
designator U?
7 nsec, 2.7V to 5V Comparator with Rail-to- Rail Output, 5-pin SC-70; PartNumber: LMV7219M7; Manufacturer: National Semiconductor; PackageTopMarking: C15*XTT; PowerWise: Y; CompType: Amplifiers; Published: 4-Dec-2008; LatestRevisionDate: 13-Jan-2009; LatestRevisionNote: Sim Model Added.; DatasheetVersion: Nov-2004; PackageVersion: revD, Jun-2007; PackageReference: MAA05A; Publisher: Altium Limited; PackageDescription: Molded SC-70, 2 x 1.25 x .9mm, 5 Lead, 0.65mm Pitch; Supplier 1: Farnell; Supplier Part Number 1: 1312830; RoHS: N; PinCount: 5; Code_JEITA: SC-88A; Code_JEDEC: MO-203-AA; Code_IPC: SOT353-5; ComponentLink1Description: LMV7219 Datasheet; ComponentLink1URL: http://www.national.com/ds/LM/LMV7219.pdf; ComponentLink2Description: LMV7219 Web Page; ComponentLink2URL: http://www.national.com/pf/LM/LMV7219.html; ComponentLink3Description: MAA05A Package Page; ComponentLink3URL: http://www.national.com/packaging/folders/maa05a.html
footprint MAA05A_N (SOT353, 5-Leads, Body 2x1.3mm, Pitch 0.65mm, Lead Span 2.1mm, IPC Medium Density)
footprint MAA05A_L (SOT353, 5-Leads, Body 2x1.3mm, Pitch 0.65mm, Lead Span 2.1mm, IPC High Density)
footprint MAA05A_M (SOT353, 5-Leads, Body 2x1.3mm, Pitch 0.65mm, Lead Span 2.1mm, IPC Low Density)
simulation model LMV7219 (SUBCKT)
pins: 1 OUT (out), 2 V- (power), 3 IN+ (in), 4 IN- (in), 5 V+ (power)

## LMV7219M7/NOPB
designator U?
7 nsec, 2.7V to 5V Comparator with Rail-to- Rail Output, 5-pin SC-70, Pb-Free; PartNumber: LMV7219M7/NOPB; Manufacturer: National Semiconductor; PackageTopMarking: C15*XTT; PowerWise: Y; CompType: Amplifiers; Published: 1-Mar-2010; DatasheetVersion: Nov-2004; PackageVersion: revD, Jun-2007; PackageReference: MAA05A; Publisher: Altium Limited; PackageDescription: Molded SC-70, 2 x 1.25 x .9mm, 5 Lead, 0.65mm Pitch; Supplier 1: Digi-Key; Supplier Part Number 1: LMV7219M7TR-ND; Supplier 2: Digi-Key; Supplier Part Number 2: LMV7219M7CT-ND; Supplier 3: Digi-Key; Supplier Part Number 3: LMV7219M7DKR-ND; Supplier 4: Farnell; Supplier Part Number 4: 1468946; RoHS: Y; PinCount: 5; Code_JEITA: SC-88A; Code_JEDEC: MO-203-AA; Code_IPC: SOT353-5; ComponentLink1Description: LMV7219 Datasheet; ComponentLink1URL: http://www.national.com/ds/LM/LMV7219.pdf; ComponentLink2Description: LMV7219 Web Page; ComponentLink2URL: http://www.national.com/pf/LM/LMV7219.html; ComponentLink3Description: MAA05A Package Page; ComponentLink3URL: http://www.national.com/packaging/folders/maa05a.html
footprint MAA05A_N (SOT353, 5-Leads, Body 2x1.3mm, Pitch 0.65mm, Lead Span 2.1mm, IPC Medium Density)
footprint MAA05A_L (SOT353, 5-Leads, Body 2x1.3mm, Pitch 0.65mm, Lead Span 2.1mm, IPC High Density)
footprint MAA05A_M (SOT353, 5-Leads, Body 2x1.3mm, Pitch 0.65mm, Lead Span 2.1mm, IPC Low Density)
simulation model LMV7219 (SUBCKT)
pins: 1 OUT (out), 2 V- (power), 3 IN+ (in), 4 IN- (in), 5 V+ (power)

## LMV7235M5
designator U?
45 nsec, Ultra Low Power, Low Voltage, Rail-toRail Input Comparator with Open-Drain/Push-Pull Output, 5-pin SOT-23; PartNumber: LMV7235M5; Manufacturer: National Semiconductor; PackageTopMarking: C21A*XTT; PowerWise: Y; CompType: Amplifiers; Published: 4-Dec-2008; DatasheetVersion: Jul-2008; PackageVersion: revD, Aug-2008; PackageReference: MF05A; Publisher: Altium Limited; PackageDescription: Molded SOT-23, .115 x .063 x .040 in Body, 5 Lead, .0375 in Pitch; Supplier 1: Farnell; Supplier Part Number 1: 9778918; RoHS: N; PinCount: 5; ComponentLink1Description: LMV7235 Datasheet; ComponentLink1URL: http://www.national.com/ds/LM/LMV7235.pdf; ComponentLink2Description: LMV7235 Web Page; ComponentLink2URL: http://www.national.com/pf/LM/LMV7235.html; ComponentLink3Description: MF05A Package Page; ComponentLink3URL: http://www.national.com/packaging/folders/mf05a.html
footprint MF05A_N (SOT23, 5-Leads, Body 2.9x1.6mm, Pitch 0.95mm, Lead Span 2.8mm, IPC Medium Density)
footprint MF05A_L (SOT23, 5-Leads, Body 2.9x1.6mm, Pitch 0.95mm, Lead Span 2.8mm, IPC High Density)
footprint MF05A_M (SOT23, 5-Leads, Body 2.9x1.6mm, Pitch 0.95mm, Lead Span 2.8mm, IPC Low Density)
pins: 1 VOUT (oc), 2 V- (power), 3 IN+ (in), 4 IN- (in), 5 V+ (power)

## LMV7235M5/NOPB
designator U?
45 nsec, Ultra Low Power, Low Voltage, Rail-toRail Input Comparator with Open-Drain/Push-Pull Output, 5-pin SOT-23, Pb-Free; PartNumber: LMV7235M5/NOPB; Manufacturer: National Semiconductor; PackageTopMarking: C21A*XTT; PowerWise: Y; CompType: Amplifiers; Published: 1-Mar-2010; DatasheetVersion: Jul-2008; PackageVersion: revD, Aug-2008; PackageReference: MF05A; Publisher: Altium Limited; PackageDescription: Molded SOT-23, .115 x .063 x .040 in Body, 5 Lead, .0375 in Pitch; Supplier 1: Digi-Key; Supplier Part Number 1: LMV7235M5TR-ND; Supplier 2: Digi-Key; Supplier Part Number 2: LMV7235M5CT-ND; Supplier 3: Digi-Key; Supplier Part Number 3: LMV7235M5DKR-ND; Supplier 4: Farnell; Supplier Part Number 4: 1496061; RoHS: Y; PinCount: 5; ComponentLink1Description: LMV7235 Datasheet; ComponentLink1URL: http://www.national.com/ds/LM/LMV7235.pdf; ComponentLink2Description: LMV7235 Web Page; ComponentLink2URL: http://www.national.com/pf/LM/LMV7235.html; ComponentLink3Description: MF05A Package Page; ComponentLink3URL: http://www.national.com/packaging/folders/mf05a.html
footprint MF05A_N (SOT23, 5-Leads, Body 2.9x1.6mm, Pitch 0.95mm, Lead Span 2.8mm, IPC Medium Density)
footprint MF05A_L (SOT23, 5-Leads, Body 2.9x1.6mm, Pitch 0.95mm, Lead Span 2.8mm, IPC High Density)
footprint MF05A_M (SOT23, 5-Leads, Body 2.9x1.6mm, Pitch 0.95mm, Lead Span 2.8mm, IPC Low Density)
pins: 1 VOUT (oc), 2 V- (power), 3 IN+ (in), 4 IN- (in), 5 V+ (power)

## LMV7235M7
designator U?
45 nsec, Ultra Low Power, Low Voltage, Rail-toRail Input Comparator with Open-Drain/Push-Pull Output, 5-pin SC-70; PartNumber: LMV7235M7; Manufacturer: National Semiconductor; PackageTopMarking: C21*XTT; PowerWise: Y; CompType: Amplifiers; Published: 4-Dec-2008; DatasheetVersion: Jul-2008; PackageVersion: revD, Jun-2007; PackageReference: MAA05A; Publisher: Altium Limited; PackageDescription: Molded SC-70, 2 x 1.25 x .9mm, 5 Lead, 0.65mm Pitch; Supplier 1: Farnell; Supplier Part Number 1: 1312831; RoHS: N; PinCount: 5; Code_JEITA: SC-88A; Code_JEDEC: MO-203-AA; Code_IPC: SOT353-5; ComponentLink1Description: LMV7235 Datasheet; ComponentLink1URL: http://www.national.com/ds/LM/LMV7235.pdf; ComponentLink2Description: LMV7235 Web Page; ComponentLink2URL: http://www.national.com/pf/LM/LMV7235.html; ComponentLink3Description: MAA05A Package Page; ComponentLink3URL: http://www.national.com/packaging/folders/maa05a.html
footprint MAA05A_N (SOT353, 5-Leads, Body 2x1.3mm, Pitch 0.65mm, Lead Span 2.1mm, IPC Medium Density)
footprint MAA05A_L (SOT353, 5-Leads, Body 2x1.3mm, Pitch 0.65mm, Lead Span 2.1mm, IPC High Density)
footprint MAA05A_M (SOT353, 5-Leads, Body 2x1.3mm, Pitch 0.65mm, Lead Span 2.1mm, IPC Low Density)
pins: 1 VOUT (oc), 2 V- (power), 3 IN+ (in), 4 IN- (in), 5 V+ (power)

## LMV7239M5
designator U?
45 nsec, Ultra Low Power, Low Voltage, Rail-to-Rail Input Comparator with Open-Drain/Push-Pull Output, 5-pin SOT-23; PartNumber: LMV7239M5; Manufacturer: National Semiconductor; PackageTopMarking: C20A*XTT; PowerWise: Y; CompType: Amplifiers; Published: 4-Dec-2008; DatasheetVersion: Jul-2008; PackageVersion: revD, Aug-2008; PackageReference: MF05A; Publisher: Altium Limited; PackageDescription: Molded SOT-23, .115 x .063 x .040 in Body, 5 Lead, .0375 in Pitch; Supplier 1: Farnell; Supplier Part Number 1: 9778926RL; Supplier 2: Farnell; Supplier Part Number 2: 9778926; RoHS: N; PinCount: 5; ComponentLink1Description: LMV7239 Datasheet; ComponentLink1URL: http://www.national.com/ds/LM/LMV7239.pdf; ComponentLink2Description: LMV7239 Web Page; ComponentLink2URL: http://www.national.com/pf/LM/LMV7239.html; ComponentLink3Description: MF05A Package Page; ComponentLink3URL: http://www.national.com/packaging/folders/mf05a.html
footprint MF05A_N (SOT23, 5-Leads, Body 2.9x1.6mm, Pitch 0.95mm, Lead Span 2.8mm, IPC Medium Density)
footprint MF05A_L (SOT23, 5-Leads, Body 2.9x1.6mm, Pitch 0.95mm, Lead Span 2.8mm, IPC High Density)
footprint MF05A_M (SOT23, 5-Leads, Body 2.9x1.6mm, Pitch 0.95mm, Lead Span 2.8mm, IPC Low Density)
pins: 1 VOUT (oc), 2 V- (power), 3 IN+ (in), 4 IN- (in), 5 V+ (power)

## LMV7239M5/NOPB
designator U?
45 nsec, Ultra Low Power, Low Voltage, Rail-to-Rail Input Comparator with Open-Drain/Push-Pull Output, 5-pin SOT-23, Pb-Free; PartNumber: LMV7239M5/NOPB; Manufacturer: National Semiconductor; PackageTopMarking: C20A*XTT; PowerWise: Y; CompType: Amplifiers; Published: 1-Mar-2010; DatasheetVersion: Jul-2008; PackageVersion: revD, Aug-2008; PackageReference: MF05A; Publisher: Altium Limited; PackageDescription: Molded SOT-23, .115 x .063 x .040 in Body, 5 Lead, .0375 in Pitch; Supplier 1: Digi-Key; Supplier Part Number 1: LMV7239M5TR-ND; Supplier 2: Digi-Key; Supplier Part Number 2: LMV7239M5CT-ND; Supplier 3: Digi-Key; Supplier Part Number 3: LMV7239M5DKR-ND; Supplier 4: Farnell; Supplier Part Number 4: 1468948; RoHS: Y; PinCount: 5; ComponentLink1Description: LMV7239 Datasheet; ComponentLink1URL: http://www.national.com/ds/LM/LMV7239.pdf; ComponentLink2Description: LMV7239 Web Page; ComponentLink2URL: http://www.national.com/pf/LM/LMV7239.html; ComponentLink3Description: MF05A Package Page; ComponentLink3URL: http://www.national.com/packaging/folders/mf05a.html
footprint MF05A_N (SOT23, 5-Leads, Body 2.9x1.6mm, Pitch 0.95mm, Lead Span 2.8mm, IPC Medium Density)
footprint MF05A_L (SOT23, 5-Leads, Body 2.9x1.6mm, Pitch 0.95mm, Lead Span 2.8mm, IPC High Density)
footprint MF05A_M (SOT23, 5-Leads, Body 2.9x1.6mm, Pitch 0.95mm, Lead Span 2.8mm, IPC Low Density)
pins: 1 VOUT (oc), 2 V- (power), 3 IN+ (in), 4 IN- (in), 5 V+ (power)

## LMV7239M7
designator U?
45 nsec, Ultra Low Power, Low Voltage, Rail-to-Rail Input Comparator with Open-Drain/Push-Pull Output, 5-pin SC-70; PartNumber: LMV7239M7; Manufacturer: National Semiconductor; PackageTopMarking: C20*XTT; PowerWise: Y; CompType: Amplifiers; Published: 4-Dec-2008; DatasheetVersion: Jul-2008; PackageVersion: revD, Jun-2007; PackageReference: MAA05A; Publisher: Altium Limited; PackageDescription: Molded SC-70, 2 x 1.25 x .9mm, 5 Lead, 0.65mm Pitch; Supplier 1: Farnell; Supplier Part Number 1: 1312833; RoHS: N; PinCount: 5; Code_JEITA: SC-88A; Code_JEDEC: MO-203-AA; Code_IPC: SOT353-5; ComponentLink1Description: LMV7239 Datasheet; ComponentLink1URL: http://www.national.com/ds/LM/LMV7239.pdf; ComponentLink2Description: LMV7239 Web Page; ComponentLink2URL: http://www.national.com/pf/LM/LMV7239.html; ComponentLink3Description: MAA05A Package Page; ComponentLink3URL: http://www.national.com/packaging/folders/maa05a.html
footprint MAA05A_N (SOT353, 5-Leads, Body 2x1.3mm, Pitch 0.65mm, Lead Span 2.1mm, IPC Medium Density)
footprint MAA05A_L (SOT353, 5-Leads, Body 2x1.3mm, Pitch 0.65mm, Lead Span 2.1mm, IPC High Density)
footprint MAA05A_M (SOT353, 5-Leads, Body 2x1.3mm, Pitch 0.65mm, Lead Span 2.1mm, IPC Low Density)
pins: 1 VOUT (oc), 2 V- (power), 3 IN+ (in), 4 IN- (in), 5 V+ (power)

## LMV7239M7/NOPB
designator U?
45 nsec, Ultra Low Power, Low Voltage, Rail-to-Rail Input Comparator with Open-Drain/Push-Pull Output, 5-pin SC-70, Pb-Free; PartNumber: LMV7239M7/NOPB; Manufacturer: National Semiconductor; PackageTopMarking: C20*XTT; PowerWise: Y; CompType: Amplifiers; Published: 1-Mar-2010; DatasheetVersion: Jul-2008; PackageVersion: revD, Jun-2007; PackageReference: MAA05A; Publisher: Altium Limited; PackageDescription: Molded SC-70, 2 x 1.25 x .9mm, 5 Lead, 0.65mm Pitch; Supplier 1: Digi-Key; Supplier Part Number 1: LMV7239M7TR-ND; Supplier 2: Digi-Key; Supplier Part Number 2: LMV7239M7CT-ND; Supplier 3: Digi-Key; Supplier Part Number 3: LMV7239M7DKR-ND; Supplier 4: Farnell; Supplier Part Number 4: 1468949; RoHS: Y; PinCount: 5; Code_JEITA: SC-88A; Code_JEDEC: MO-203-AA; Code_IPC: SOT353-5; ComponentLink1Description: LMV7239 Datasheet; ComponentLink1URL: http://www.national.com/ds/LM/LMV7239.pdf; ComponentLink2Description: LMV7239 Web Page; ComponentLink2URL: http://www.national.com/pf/LM/LMV7239.html; ComponentLink3Description: MAA05A Package Page; ComponentLink3URL: http://www.national.com/packaging/folders/maa05a.html
footprint MAA05A_N (SOT353, 5-Leads, Body 2x1.3mm, Pitch 0.65mm, Lead Span 2.1mm, IPC Medium Density)
footprint MAA05A_L (SOT353, 5-Leads, Body 2x1.3mm, Pitch 0.65mm, Lead Span 2.1mm, IPC High Density)
footprint MAA05A_M (SOT353, 5-Leads, Body 2x1.3mm, Pitch 0.65mm, Lead Span 2.1mm, IPC Low Density)
pins: 1 VOUT (oc), 2 V- (power), 3 IN+ (in), 4 IN- (in), 5 V+ (power)

## LMV7271MF
designator U?
Single 1.8V Low Power Comparators with Rail-to-Rail Input, 5-pin SOT-23; PartNumber: LMV7271MF; Manufacturer: National Semiconductor; PackageTopMarking: C25A*XTT; PowerWise: Y; CompType: Amplifiers; Published: 4-Dec-2008; LatestRevisionDate: 13-Jan-2009; LatestRevisionNote: Sim Model Added.; DatasheetVersion: May-2008; PackageVersion: revD, Aug-2008; PackageReference: MF05A; Publisher: Altium Limited; PackageDescription: Molded SOT-23, .115 x .063 x .040 in Body, 5 Lead, .0375 in Pitch; Supplier 1: Farnell; Supplier Part Number 1: 9779795; Supplier 2: Farnell; Supplier Part Number 2: 9779795RL; RoHS: N; PinCount: 5; ComponentLink1Description: LMV7271 Datasheet; ComponentLink1URL: http://www.national.com/ds/LM/LMV7271.pdf; ComponentLink2Description: LMV7271 Web Page; ComponentLink2URL: http://www.national.com/pf/LM/LMV7271.html; ComponentLink3Description: MF05A Package Page; ComponentLink3URL: http://www.national.com/packaging/folders/mf05a.html
footprint MF05A_N (SOT23, 5-Leads, Body 2.9x1.6mm, Pitch 0.95mm, Lead Span 2.8mm, IPC Medium Density)
footprint MF05A_L (SOT23, 5-Leads, Body 2.9x1.6mm, Pitch 0.95mm, Lead Span 2.8mm, IPC High Density)
footprint MF05A_M (SOT23, 5-Leads, Body 2.9x1.6mm, Pitch 0.95mm, Lead Span 2.8mm, IPC Low Density)
simulation model LMV7271 (SUBCKT)
pins: 1 IN+ (in), 2 GND (power), 3 IN- (in), 4 OUT (out), 5 V+ (power)

## LMV7271MF/NOPB
designator U?
Single 1.8V Low Power Comparators with Rail-to-Rail Input, 5-pin SOT-23, Pb-Free; PartNumber: LMV7271MF/NOPB; Manufacturer: National Semiconductor; PackageTopMarking: C25A*XTT; PowerWise: Y; CompType: Amplifiers; Published: 1-Mar-2010; DatasheetVersion: May-2008; PackageVersion: revD, Aug-2008; PackageReference: MF05A; Publisher: Altium Limited; PackageDescription: Molded SOT-23, .115 x .063 x .040 in Body, 5 Lead, .0375 in Pitch; Supplier 1: Digi-Key; Supplier Part Number 1: LMV7271MFTR-ND; Supplier 2: Digi-Key; Supplier Part Number 2: LMV7271MFCT-ND; Supplier 3: Digi-Key; Supplier Part Number 3: LMV7271MFDKR-ND; Supplier 4: Farnell; Supplier Part Number 4: 1496065; RoHS: Y; PinCount: 5; ComponentLink1Description: LMV7271 Datasheet; ComponentLink1URL: http://www.national.com/ds/LM/LMV7271.pdf; ComponentLink2Description: LMV7271 Web Page; ComponentLink2URL: http://www.national.com/pf/LM/LMV7271.html; ComponentLink3Description: MF05A Package Page; ComponentLink3URL: http://www.national.com/packaging/folders/mf05a.html
footprint MF05A_N (SOT23, 5-Leads, Body 2.9x1.6mm, Pitch 0.95mm, Lead Span 2.8mm, IPC Medium Density)
footprint MF05A_L (SOT23, 5-Leads, Body 2.9x1.6mm, Pitch 0.95mm, Lead Span 2.8mm, IPC High Density)
footprint MF05A_M (SOT23, 5-Leads, Body 2.9x1.6mm, Pitch 0.95mm, Lead Span 2.8mm, IPC Low Density)
simulation model LMV7271 (SUBCKT)
pins: 1 IN+ (in), 2 GND (power), 3 IN- (in), 4 OUT (out), 5 V+ (power)

## LMV7271MG
designator U?
Single 1.8V Low Power Comparators with Rail-to-Rail Input, 5-pin SC-70; PartNumber: LMV7271MG; Manufacturer: National Semiconductor; PackageTopMarking: C34*XTT; PowerWise: Y; CompType: Amplifiers; Published: 4-Dec-2008; LatestRevisionDate: 13-Jan-2009; LatestRevisionNote: Sim Model Added.; DatasheetVersion: May-2008; PackageVersion: revD, Jun-2007; PackageReference: MAA05A; Publisher: Altium Limited; PackageDescription: Molded SC-70, 2 x 1.25 x .9mm, 5 Lead, 0.65mm Pitch; Supplier 1: Farnell; Supplier Part Number 1: 1312834; RoHS: N; PinCount: 5; Code_JEITA: SC-88A; Code_JEDEC: MO-203-AA; Code_IPC: SOT353-5; ComponentLink1Description: LMV7271 Datasheet; ComponentLink1URL: http://www.national.com/ds/LM/LMV7271.pdf; ComponentLink2Description: LMV7271 Web Page; ComponentLink2URL: http://www.national.com/pf/LM/LMV7271.html; ComponentLink3Description: MAA05A Package Page; ComponentLink3URL: http://www.national.com/packaging/folders/maa05a.html
footprint MAA05A_N (SOT353, 5-Leads, Body 2x1.3mm, Pitch 0.65mm, Lead Span 2.1mm, IPC Medium Density)
footprint MAA05A_L (SOT353, 5-Leads, Body 2x1.3mm, Pitch 0.65mm, Lead Span 2.1mm, IPC High Density)
footprint MAA05A_M (SOT353, 5-Leads, Body 2x1.3mm, Pitch 0.65mm, Lead Span 2.1mm, IPC Low Density)
simulation model LMV7271 (SUBCKT)
pins: 1 IN+ (in), 2 GND (power), 3 IN- (in), 4 OUT (out), 5 V+ (power)